# Altium schematic symbol library ZXMN3A01ZTA.SchLib: 1 symbol
Pins are listed as number, name and electrical type; pins without a type are passive.

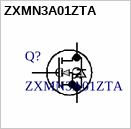
[diagram p0: symbol ZXMN3A01ZTA]

## ZXMN3A01ZTA
designator Q?
No Description Available; Manufacturer_Name: Diodes Inc; Copyright: Copyright (C) 2025 Ultra Librarian. All rights reserved.; Manufacturer_Part_Number: ZXMN3A01ZTA
footprint ZXMN3_DIO
pins: 1 G, 2 D, 3 S